# Altium integrated library Quartz crystals.IntLib: 10 symbols
Pins are listed as number, name and electrical type; pins without a type are passive.

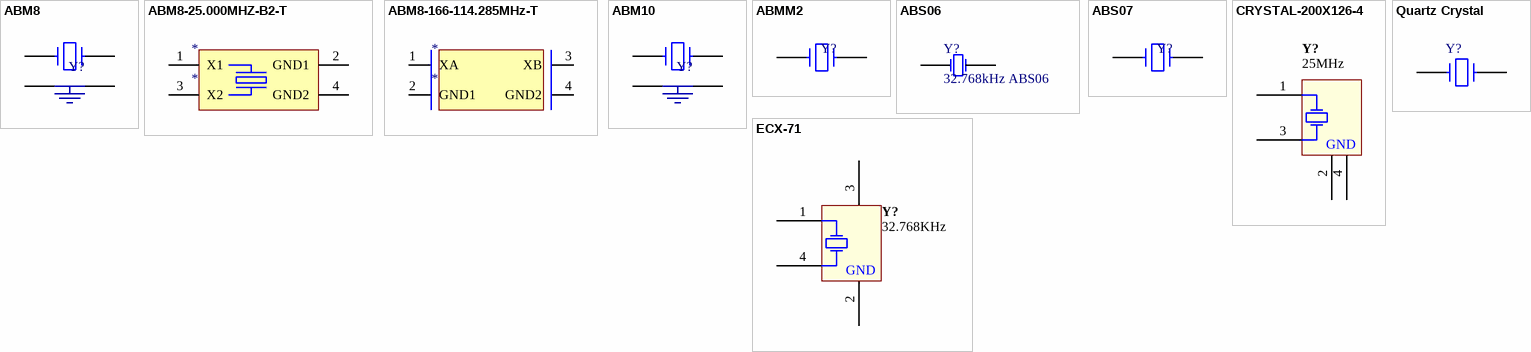
[diagram p0: symbols ABM8 to Quartz Crystal]

## ABM8
designator Y?, comment 1MHz  (value not drawn)
SMD Quartz Crystal; Published: 28 April 2014; Created By: Zion Blue; Publisher: Cynetik Group; Nominal Fequency: 1MHz
footprint ABM8 (HC-49US XTAL)
pins: 1 "XT1", 2 (power) "GND", 3 "XT2", 4 (power) "GND"

## ABM8-25.000MHZ-B2-T
designator *
Supplier 1: Digi-Key; Supplier Part Number 1: 535-9140-2-ND
footprint ABM8_1
pins: 1 X1, 2 GND1, 3 X2, 4 GND2

## ABM8-166-114.285MHz-T
designator *
Supplier 1: Digi-Key; Supplier Part Number 1: 535-10306-2-ND
footprint CS_023_125X98 (ABM8-166-114.285MHZ-T)
pins: 1 XA, 2 GND1, 3 XB, 4 GND2

## ABM10
designator Y?, comment 1MHz  (value not drawn)
SMD Quartz Crystal; Published: 28 April 2014; Created By: Zion Blue; Publisher: Cynetik Group; Nominal Fequency: 1MHz
footprint ABM10 (2 x 2.5mm crystal)
pins: 1 "XT1", 2 (power) "GND", 3 "XT2", 4 (power) "GND"

## ABMM2
designator Y?, comment 1MHz  (value not drawn)
SMD Quartz Crystal; Published: 28 April 2014; Created By: Zion Blue; Publisher: Cynetik Group; Nominal Fequency: 1MHz
footprint ABMM2 (Ceramic Quartz Crystal oscilator - PIC32-T795 project)
pins: 1 "XT1", 2 "XT2"

## ABS06
designator Y?, comment 32.768kHz ABS06
footprint ABS06
pins: 1 OSC2, 2

## ABS07
designator Y?, comment 1MHz  (value not drawn)
SMD Quartz Crystal; Created By: Zion Blue; Published: 28 April 2014; Publisher: Cynetik Group; Nominal Fequency: 1MHz
footprint ABS07 (HC-49US XTAL)
pins: 1 "XT1", 2 "XT2"

## CRYSTAL-200X126-4
designator Y?, comment 25MHz
Crystal, SMD, 25.000000MHz Stab=50ppm 18.0pF; Frequency Stability: 50ppm; Load Capacitance: 18pF; Nominal Operational Voltage: mV; Frequency Tolerance: 50ppm; Mounting Technology: Surface Mount; Nominal Fequency: 25MHz; Status: Unreleased; Category: Crystal
footprint XTAL-200X126-4
pins: 1 X1, 2 GND, 3 X2, 4 GND

## ECX-71
designator Y?, comment 32.768KHz
Crystal, 32.768 KHz Surface Mount; Frequency Stability: 20ppm; Frequency Tolerance: ppm; Load Capacitance: 7pF; Nominal Operational Voltage: mV; Mounting Technology: Surface Mount; Nominal Fequency: 32.768KHz; Status: Production; Category: Crystal
footprint ECS-71
pins: 1 X1, 2 GND, 3 X2, 4 GND

## Quartz Crystal
designator Y?, comment 4MHz  (value not drawn)
Quartz Crystal; Published: 8 April 2014; Created By: Zion Blue; Publisher: Cynetik Group; Nominal Fequency: 4MHz
footprint Cristal mini (Cristal de cuarzo empaque pequeño)
footprint Cristal  montaje (Cristal de cuarzo de montaje superficial)
footprint Cilindrical-H-SMD (Cilindrical canned XTAL, Horizontal, SMD)
footprint HC-49U (HC-49U XTAL)
footprint HC-49US (HC-49US XTAL)
footprint HC-49US - SMD (HC-49US XTAL)
pins: 1, 2